# EAGLE library part DG2034EDQ-T1-GE3 (library DG2034EDQ-T1-GE3)
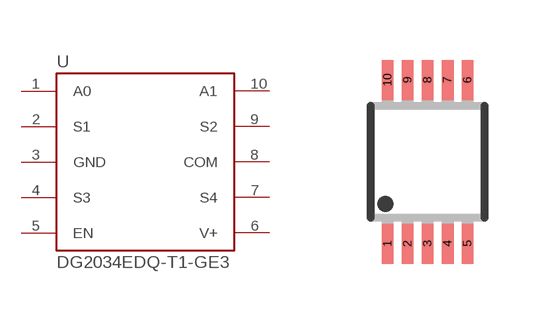
[diagram p0: symbol with the pads of MSOP10; footprint MSOP10]

Designator prefix U

## DG2034EDQ-T1-GE3  [MSOP10]
1  A0  in
2  S1
3  GND  pwr
4  S3
5  EN  in
6  V+  pwr
7  S4
8  COM
9  S2
10  A1  in

## Footprint MSOP10 (pad centres in mm)
10 Lead Platic MSOP Source: http://www.linear.com .. LT1996
smd 0.3 x 1: 1 -1,-2.05; 2 -0.5,-2.05; 3 0,-2.05; 4 0.5,-2.05; 5 1,-2.05; 6 1,2.05; 7 0.5,2.05; 8 0,2.05; 9 -0.5,2.05; 10 -1,2.05